# EAGLE library part 2VPOWERCLAW (library anderson)
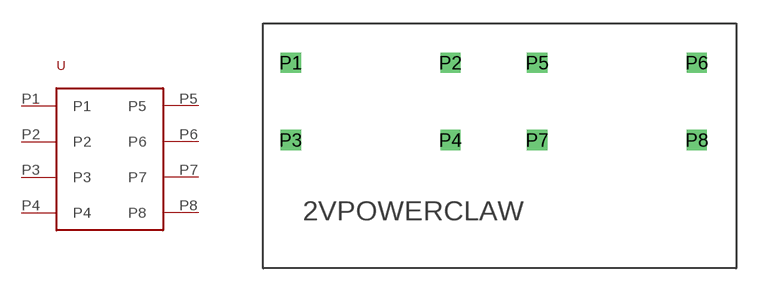
[diagram p1: symbol with the pads of 2VPOWERCLAW; footprint 2VPOWERCLAW]

Designator prefix -

## 2VPOWERCLAW  [2VPOWERCLAW]
P1  P1
P2  P2
P3  P3
P4  P4
P5  P5
P6  P6
P7  P7
P8  P8

## Footprint 2VPOWERCLAW (pad centres in mm)
drill 0.8 square: P1 -26.162,0; P2 -15.875,0; P3 -26.162,-4.978; P4 -15.875,-4.978; P5 -10.287,0; P6 0,0; P7 -10.287,-4.978; P8 0,-4.978